# Altium footprint library XL6019.PcbLib: 1 footprints
Each footprint in its own frame and in the unit in brackets; x right, y up, seen from the top. Pads: shape width x height; smd on the part's side, far side on the other; paste and mask are expansions set on the pad; w line width, h text height; cw(c..) or ccw(c..) is an arc to the next point about the centre after c.
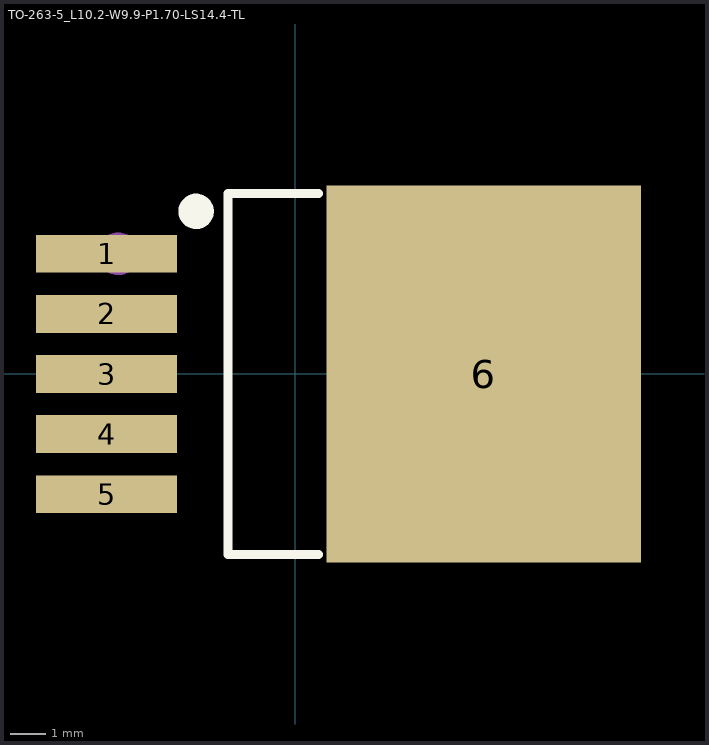
[diagram p0: the footprint, top view; thin cyan lines are the x and y axes]

## TO-263-5_L10.2-W9.9-P1.70-LS14.4-TL [mm]
pads (6):
  rect 4x1.069 smd: 1(-5.334,3.4) 2(-5.334,1.7) 3(-5.334,0) 4(-5.334,-1.7) 5(-5.334,-3.4)
  rect 8.89x10.66 smd: 6(5.334,0)
Top Overlay:
  circle w0.5: c-2.8,4.6 r0.25
  lines w0.254: 0.658,-5.1 -1.9,-5.1 -1.9,5.1 0.6,5.1 0.658,5.1
Mechanical 15:
  circle w0.6: c-5,3.4 r0.3